# EAGLE library part LEVEL_CONVERTER (library paulw11_lightblue_bean)
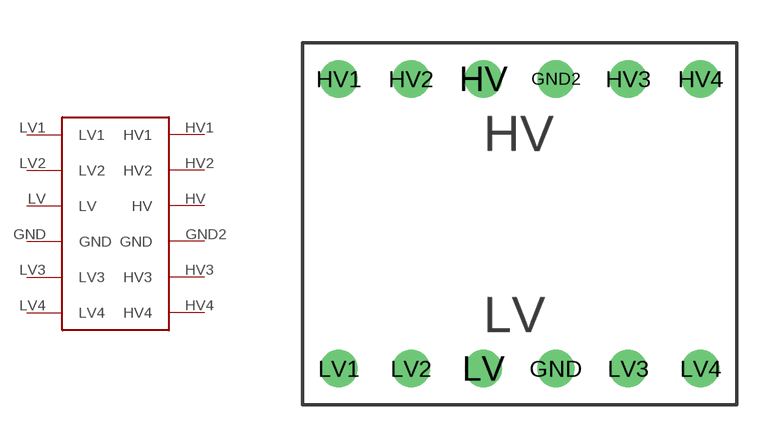
[diagram p1: symbol with the pads of LEVEL_CONVERTER; footprint LEVEL_CONVERTER]

Designator prefix -

## LEVEL_CONVERTER  [LEVEL_CONVERTER]
GND  GND
GND2  GND
HV  HV
HV1  HV1
HV2  HV2
HV3  HV3
HV4  HV4
LV  LV
LV1  LV1
LV2  LV2
LV3  LV3
LV4  LV4

## Footprint LEVEL_CONVERTER (pad centres in mm)
drill 0.8: GND 8.89,1.27; GND2 8.89,11.43; HV 6.35,11.43; HV1 1.27,11.43; HV2 3.81,11.43; HV3 11.43,11.43; HV4 13.97,11.43; LV 6.35,1.27; LV1 1.27,1.27; LV2 3.81,1.27; LV3 11.43,1.27; LV4 13.97,1.27